# Altium schematic symbol library IND,1mH,160mA,Wirewound,Thru.Schlib: 1 symbol
Pins are listed as number, name and electrical type; pins without a type are passive.

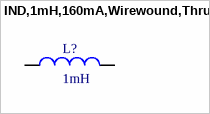
[diagram p0: symbol IND,1mH,160mA,Wirewound,Thru]

## IND,1mH,160mA,Wirewound,Thru
designator L?, comment 1mH
1mH Unshielded Wirewound Inductor 160mA 7.9Ohm Max Axial
pins: 1, 2